# EAGLE library part TPS7A4700_RGW_20 (library SensorCape)
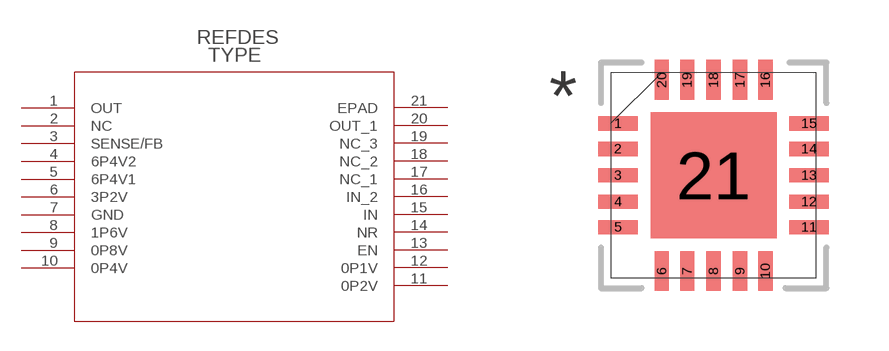
[diagram p11: symbol with the pads of RGW20_3P15X3P15; footprint RGW20_3P15X3P15]

Designator prefix -

## TPS7A4700_RGW_20  [RGW20_3P15X3P15]
1  OUT  pas
2  NC  pas
3  SENSE/FB  pas
4  6P4V2  pas
5  6P4V1  pas
6  3P2V  pas
7  GND  pas
8  1P6V  pas
9  0P8V  pas
10  0P4V  pas
11  0P2V  pas
12  0P1V  pas
13  EN  pas
14  NR  pas
15  IN  pas
16  IN_2  pas
17  NC_1  pas
18  NC_2  pas
19  NC_3  pas
20  OUT_1  pas
21  EPAD  pas

## Footprint RGW20_3P15X3P15 (pad centres in mm)
smd 0.991 x 0.356: 1 -2.388,1.295; 2 -2.388,0.66; 3 -2.388,0; 4 -2.388,-0.66; 5 -2.388,-1.295; 11 2.388,-1.295; 12 2.388,-0.66; 13 2.388,0; 14 2.388,0.66; 15 2.388,1.295
smd 0.356 x 0.991: 6 -1.295,-2.388; 7 -0.66,-2.388; 8 0,-2.388; 9 0.66,-2.388; 10 1.295,-2.388; 16 1.295,2.388; 17 0.66,2.388; 18 0,2.388; 19 -0.66,2.388; 20 -1.295,2.388
smd 3.15 x 3.15: 21 0,0